# EAGLE library part PINHEAD_2X03 (library pinhead)
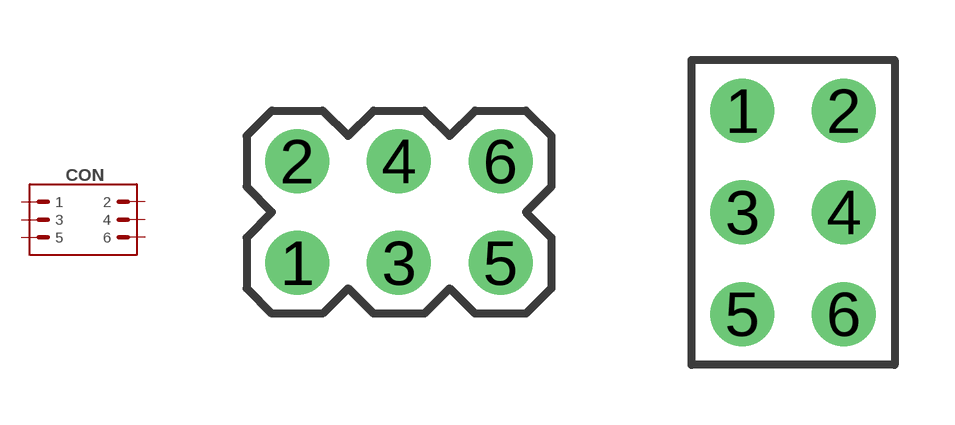
[diagram p3: symbol with the pads of PLD6; footprints PLD6, PBD6]

Designator prefix CON

## PINHEAD_2X03-PTH-2.54  [PLD6]
1  1  pas
2  2  pas
3  3  pas
4  4  pas
5  5  pas
6  6  pas

## PINHEAD_2X03-PTH-2.54-FEMALE  [PBD6]
Pads as for PLD6

## PINHEAD_2X03-0791098402 (DIGIKEY#: WM17565TR-ND; MANF: Molex; MANF#: 0791098402)  [2X03-SMD-2-FEMALE]
Pads as for PLD6

## PINHEAD_2X03-PTH-2  [2X03-PTH-2]
Pads as for PLD6

## PINHEAD_2X03-0877590614 (DIGIKEY#: WM18713-ND; MANF: Molex; MANF#: 0877590614)  [2X03-SMD-2-MALE]
Pads as for PLD6

## PINHEAD_2X03-IDC (MANF: Connfly; MANF#: BH-06)  [IDC6]
Pads as for PLD6

## Footprint PLD6 (pad centres in mm)
3D model <https://grabcad.com/library/pld-connectors-1>
drill 0.9 pad 1.6: 1 -2.54,-1.27; 2 -2.54,1.27; 3 0,-1.27; 4 0,1.27; 5 2.54,-1.27; 6 2.54,1.27

## Footprint PBD6 (pad centres in mm)
drill 0.9 pad 1.6: 1 -1.27,2.54; 2 1.27,2.54; 3 -1.27,0; 4 1.27,0; 5 -1.27,-2.54; 6 1.27,-2.54

## Footprint 2X03-SMD-2-FEMALE (pad centres in mm)
Drawing <https://www.molex.com/pdm_docs/sd/791091012_sd.pdf>
smd 1.9 x 1.12: 1 -2.35,2; 2 2.35,2; 3 -2.35,0; 4 2.35,0; 5 -2.35,-2; 6 2.35,-2

## Footprint 2X03-PTH-2 (pad centres in mm)
drill 0.8 pad 1.4: 1 -1,2; 2 1,2; 3 -1,0; 4 1,0; 5 -1,-2; 6 1,-2

## Footprint 2X03-SMD-2-MALE (pad centres in mm)
Drawing <https://www.molex.com/pdm_docs/sd/791091012_sd.pdf>
smd 1.9 x 1.12: 1 -2.35,2; 2 2.35,2; 3 -2.35,0; 4 2.35,0; 5 -2.35,-2; 6 2.35,-2

## Footprint IDC6 (pad centres in mm)
drill 1: 1 -1.27,2.54; 2 1.27,2.54; 3 -1.27,0; 4 1.27,0; 5 -1.27,-2.54; 6 1.27,-2.54